# Altium footprint library Project_Oshinoko.PcbLib: 202 footprints (part 13 of 13)
Each footprint in its own frame and in the unit in brackets; x right, y up, seen from the top. Pads: shape width x height; smd on the part's side, far side on the other; paste and mask are expansions set on the pad; w line width, h text height; cw(c..) or ccw(c..) is an arc to the next point about the centre after c.
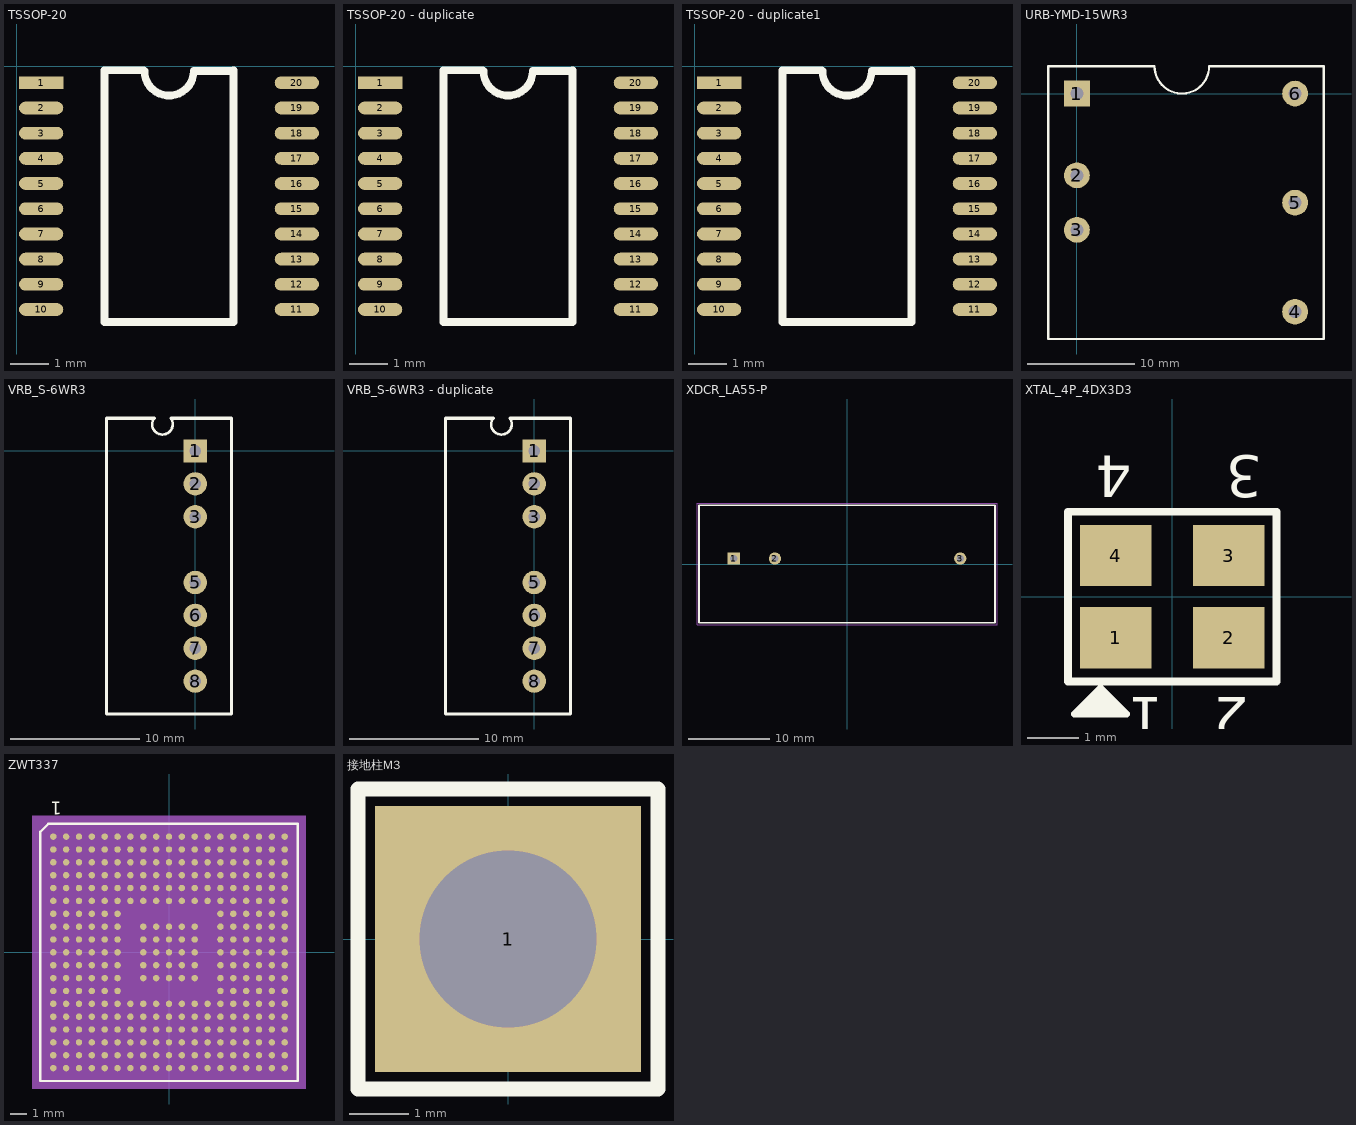
[diagram p12: the footprints below, top view; thin cyan lines are the x and y axes]

## TSSOP-20 [mm]
pads (20):
  rect 1.143x0.33 smd: 1(0.635,-0.432)
  oval 1.143x0.33 smd: 2(0.635,-1.082) 3(0.635,-1.732) 4(0.635,-2.382) 5(0.635,-3.032) 6(0.635,-3.682) 7(0.635,-4.332) 8(0.635,-4.982) 9(0.635,-5.632) 10(0.635,-6.282) 11(7.235,-6.282) 12(7.235,-5.632) 13(7.235,-4.982) 14(7.235,-4.332) 15(7.235,-3.682) 16(7.235,-3.032) 17(7.235,-2.382) 18(7.235,-1.732) 19(7.235,-1.082) 20(7.235,-0.432)
Top Overlay:
  lines w0.2: 3.282,-0.107 2.27,-0.107 2.27,-6.607 5.6,-6.607 5.6,-0.107 ; 3.302,-0.127 ccw(c3.937,-0.127) 4.572,-0.127 5.58,-0.127

## TSSOP-20 - duplicate [mm]
pads (20):
  rect 1.143x0.33 smd: 1(0.635,-0.432)
  oval 1.143x0.33 smd: 2(0.635,-1.082) 3(0.635,-1.732) 4(0.635,-2.382) 5(0.635,-3.032) 6(0.635,-3.682) 7(0.635,-4.332) 8(0.635,-4.982) 9(0.635,-5.632) 10(0.635,-6.282) 11(7.235,-6.282) 12(7.235,-5.632) 13(7.235,-4.982) 14(7.235,-4.332) 15(7.235,-3.682) 16(7.235,-3.032) 17(7.235,-2.382) 18(7.235,-1.732) 19(7.235,-1.082) 20(7.235,-0.432)
Top Overlay:
  lines w0.2: 3.282,-0.107 2.27,-0.107 2.27,-6.607 5.6,-6.607 5.6,-0.107 ; 3.302,-0.127 ccw(c3.937,-0.127) 4.572,-0.127 5.58,-0.127

## TSSOP-20 - duplicate1 [mm]
pads (20):
  rect 1.143x0.33 smd: 1(0.635,-0.432)
  oval 1.143x0.33 smd: 2(0.635,-1.082) 3(0.635,-1.732) 4(0.635,-2.382) 5(0.635,-3.032) 6(0.635,-3.682) 7(0.635,-4.332) 8(0.635,-4.982) 9(0.635,-5.632) 10(0.635,-6.282) 11(7.235,-6.282) 12(7.235,-5.632) 13(7.235,-4.982) 14(7.235,-4.332) 15(7.235,-3.682) 16(7.235,-3.032) 17(7.235,-2.382) 18(7.235,-1.732) 19(7.235,-1.082) 20(7.235,-0.432)
Top Overlay:
  lines w0.2: 3.282,-0.107 2.27,-0.107 2.27,-6.607 5.6,-6.607 5.6,-0.107 ; 3.302,-0.127 ccw(c3.937,-0.127) 4.572,-0.127 5.58,-0.127

## URB-YMD-15WR3 [mm]
pads (6):
  rect 2.4x2.4 hole 1.2: 1(0,0)
  round 2.4 hole 1.2: 2(0,-7.62) 3(0,-12.7) 4(20.32,-20.32) 5(20.32,-10.16) 6(20.32,0)
Top Overlay:
  lines w0.2: -2.667,-22.86 -2.667,0.254 -2.667,2.54 2.67,2.54 7.239,2.54 ccw(c9.779,2.54) 12.319,2.54 22.987,2.54 22.987,-22.86 2.032,-22.86 -2.667,-22.86

## VRB_S-6WR3 [mm]
pads (7):
  rect 1.8x1.8 hole 0.9: 1(0,0)
  round 1.8 hole 0.9: 2(0,-2.54) 3(0,-5.08) 5(0,-10.16) 6(0,-12.7) 7(0,-15.24) 8(0,-17.78)
Top Overlay:
  lines w0.2: -3.175,2.54 ccw(c-2.54,2.064) -1.905,2.54
  lines w0.254: -3.175,2.54 -6.858,2.54 -6.858,-20.32 0,-20.32 2.794,-20.32 2.794,2.54 -1.873,2.54

## VRB_S-6WR3 - duplicate [mm]
pads (7):
  rect 1.8x1.8 hole 0.9: 1(0,0)
  round 1.8 hole 0.9: 2(0,-2.54) 3(0,-5.08) 5(0,-10.16) 6(0,-12.7) 7(0,-15.24) 8(0,-17.78)
Top Overlay:
  lines w0.2: -3.175,2.54 ccw(c-2.54,2.064) -1.905,2.54
  lines w0.254: -3.175,2.54 -6.858,2.54 -6.858,-20.32 0,-20.32 2.794,-20.32 2.794,2.54 -1.873,2.54

## XDCR_LA55-P [mm]
pads (3):
  rect 1.5x1.5 hole 0.9: 1(-13.97,0.675)
  round 1.5 hole 0.9: 2(-8.89,0.675) 3(13.97,0.675)
Top Overlay:
  lines w0.2: -18.25,-7.225 -18.25,7.225 18.25,7.225 18.25,-7.225 -18.25,-7.225
Mechanical 15:
  lines w0.05: -18.5,-7.5 -18.5,7.5 18.5,7.5 18.5,-7.5 -18.5,-7.5

## XTAL_4P_4DX3D3 [mil] "XTAL_4P_4DX3D3"
pads (4):
  rect 55x47 smd: 1(-43.35,-31.51) 2(43.35,-31.51) 3(43.35,31.51) 4(-43.35,31.51)
Top Overlay:
  lines w5: -65,-85 -65,-90 -60,-90 ; -65,-85 -70,-90 -70,-85 -65,-85 ; -65,-85 -55,-75 ; -60,-90 -60,-85 -55,-80 ; -60,-90 -50,-80 -45,-85 ; -60,-90 -60,-75 -55,-75 ; -60,-90 -35,-90 -55,-70 -75,-90 -50,-90 ; -55,-80 -55,-75 ; -55,-80 -50,-75 -50,-85 -45,-85 ; -55,-80 -55,-85 -50,-90 ; -55,-75 -55,-90 -40,-90 -45,-85 ; -50,-90 -45,-85
  lines w6: -80,-65 -80,65 80,65 80,-65 -80,-65
  text "4" at -30.98,108 h32
  text "3" at 69.02,108 h32
  text "2" at 59.02,-77 h32
  text "1" at -5.98,-77 h32
Mechanical 8:
  text "1" at -33.35,-31.51 h25
  text "4" at -33.35,31.51 h25
  text "2" at 53.35,-31.51 h25
  text "3" at 53.35,31.51 h25

## ZWT337 [mm] "ZWT337"
pads (337):
  round 0.4 smd: A1(-7.2,7.2) A2(-6.4,7.2) A3(-5.6,7.2) A4(-4.8,7.2) A5(-4,7.2) A6(-3.2,7.2) A7(-2.4,7.2) A8(-1.6,7.2) A9(-0.8,7.2) A10(0,7.2) A11(0.8,7.2) A12(1.6,7.2) A13(2.4,7.2) A14(3.2,7.2) A15(4,7.2) A16(4.8,7.2) A17(5.6,7.2) A18(6.4,7.2) A19(7.2,7.2) B1(-7.2,6.4) B2(-6.4,6.4) B3(-5.6,6.4) B4(-4.8,6.4) B5(-4,6.4) B6(-3.2,6.4) B7(-2.4,6.4) B8(-1.6,6.4) B9(-0.8,6.4) B10(0,6.4) B11(0.8,6.4) B12(1.6,6.4) B13(2.4,6.4) B14(3.2,6.4) B15(4,6.4) B16(4.8,6.4) B17(5.6,6.4) B18(6.4,6.4) B19(7.2,6.4) C1(-7.2,5.6) C2(-6.4,5.6) C3(-5.6,5.6) C4(-4.8,5.6) C5(-4,5.6) C6(-3.2,5.6) C7(-2.4,5.6) C8(-1.6,5.6) C9(-0.8,5.6) C10(0,5.6) C11(0.8,5.6) C12(1.6,5.6) C13(2.4,5.6) C14(3.2,5.6) C15(4,5.6) C16(4.8,5.6) C17(5.6,5.6) C18(6.4,5.6) C19(7.2,5.6) D1(-7.2,4.8) D2(-6.4,4.8) D3(-5.6,4.8) D4(-4.8,4.8) D5(-4,4.8) D6(-3.2,4.8) D7(-2.4,4.8) D8(-1.6,4.8) D9(-0.8,4.8) D10(0,4.8) D11(0.8,4.8) D12(1.6,4.8) D13(2.4,4.8) D14(3.2,4.8) D15(4,4.8) D16(4.8,4.8) D17(5.6,4.8) D18(6.4,4.8) D19(7.2,4.8) E1(-7.2,4) E2(-6.4,4) E3(-5.6,4) E4(-4.8,4) E5(-4,4) E6(-3.2,4) E7(-2.4,4) E8(-1.6,4) E9(-0.8,4) E10(0,4) E11(0.8,4) E12(1.6,4) E13(2.4,4) E14(3.2,4) E15(4,4) E16(4.8,4) E17(5.6,4) E18(6.4,4) E19(7.2,4) F1(-7.2,3.2) F2(-6.4,3.2) F3(-5.6,3.2) F4(-4.8,3.2) F5(-4,3.2) F6(-3.2,3.2) F7(-2.4,3.2) F8(-1.6,3.2) F9(-0.8,3.2) F10(0,3.2) F11(0.8,3.2) F12(1.6,3.2) F13(2.4,3.2) F14(3.2,3.2) F15(4,3.2) F16(4.8,3.2) F17(5.6,3.2) F18(6.4,3.2) F19(7.2,3.2) G1(-7.2,2.4) G2(-6.4,2.4) G3(-5.6,2.4) G4(-4.8,2.4) G5(-4,2.4) G6(-3.2,2.4) G14(3.2,2.4) G15(4,2.4) G16(4.8,2.4) G17(5.6,2.4) G18(6.4,2.4) G19(7.2,2.4) H1(-7.2,1.6) H2(-6.4,1.6) H3(-5.6,1.6) H4(-4.8,1.6) H5(-4,1.6) H6(-3.2,1.6) H8(-1.6,1.6) H9(-0.8,1.6) H10(0,1.6) H11(0.8,1.6) H12(1.6,1.6) H14(3.2,1.6) H15(4,1.6) H16(4.8,1.6) H17(5.6,1.6) H18(6.4,1.6) H19(7.2,1.6) J1(-7.2,0.8) J2(-6.4,0.8) J3(-5.6,0.8) J4(-4.8,0.8) J5(-4,0.8) J6(-3.2,0.8) J8(-1.6,0.8) J9(-0.8,0.8) J10(0,0.8) J11(0.8,0.8) J12(1.6,0.8) J14(3.2,0.8) J15(4,0.8) J16(4.8,0.8) J17(5.6,0.8) J18(6.4,0.8) J19(7.2,0.8) K1(-7.2,0) K2(-6.4,0) K3(-5.6,0) K4(-4.8,0) K5(-4,0) K6(-3.2,0) K8(-1.6,0) K9(-0.8,0) K10(0,0) K11(0.8,0) K12(1.6,0) K14(3.2,0) K15(4,0) K16(4.8,0) K17(5.6,0) K18(6.4,0) K19(7.2,0) L1(-7.2,-0.8) L2(-6.4,-0.8) L3(-5.6,-0.8) L4(-4.8,-0.8) L5(-4,-0.8) L6(-3.2,-0.8) L8(-1.6,-0.8) L9(-0.8,-0.8) L10(0,-0.8) L11(0.8,-0.8) L12(1.6,-0.8) L14(3.2,-0.8) L15(4,-0.8) L16(4.8,-0.8) L17(5.6,-0.8) L18(6.4,-0.8) L19(7.2,-0.8) M1(-7.2,-1.6) M2(-6.4,-1.6) M3(-5.6,-1.6) M4(-4.8,-1.6) M5(-4,-1.6) M6(-3.2,-1.6) M8(-1.6,-1.6) M9(-0.8,-1.6) M10(0,-1.6) M11(0.8,-1.6) M12(1.6,-1.6) M14(3.2,-1.6) M15(4,-1.6) M16(4.8,-1.6) M17(5.6,-1.6) M18(6.4,-1.6) M19(7.2,-1.6) N1(-7.2,-2.4) N2(-6.4,-2.4) N3(-5.6,-2.4) N4(-4.8,-2.4) N5(-4,-2.4) N6(-3.2,-2.4) N14(3.2,-2.4) N15(4,-2.4) N16(4.8,-2.4) N17(5.6,-2.4) N18(6.4,-2.4) N19(7.2,-2.4) P1(-7.2,-3.2) P2(-6.4,-3.2) P3(-5.6,-3.2) P4(-4.8,-3.2) P5(-4,-3.2) P6(-3.2,-3.2) P7(-2.4,-3.2) P8(-1.6,-3.2) P9(-0.8,-3.2) P10(0,-3.2) P11(0.8,-3.2) P12(1.6,-3.2) P13(2.4,-3.2) P14(3.2,-3.2) P15(4,-3.2) P16(4.8,-3.2) P17(5.6,-3.2) P18(6.4,-3.2) P19(7.2,-3.2) R1(-7.2,-4) R2(-6.4,-4) R3(-5.6,-4) R4(-4.8,-4) R5(-4,-4) R6(-3.2,-4) R7(-2.4,-4) R8(-1.6,-4) R9(-0.8,-4) R10(0,-4) R11(0.8,-4) R12(1.6,-4) R13(2.4,-4) R14(3.2,-4) R15(4,-4) R16(4.8,-4) R17(5.6,-4) R18(6.4,-4) R19(7.2,-4) T1(-7.2,-4.8) T2(-6.4,-4.8) T3(-5.6,-4.8) T4(-4.8,-4.8) T5(-4,-4.8) T6(-3.2,-4.8) T7(-2.4,-4.8) T8(-1.6,-4.8) T9(-0.8,-4.8) T10(0,-4.8) T11(0.8,-4.8) T12(1.6,-4.8) T13(2.4,-4.8) T14(3.2,-4.8) T15(4,-4.8) T16(4.8,-4.8) T17(5.6,-4.8) T18(6.4,-4.8) T19(7.2,-4.8) U1(-7.2,-5.6) U2(-6.4,-5.6) U3(-5.6,-5.6) U4(-4.8,-5.6) U5(-4,-5.6) U6(-3.2,-5.6) U7(-2.4,-5.6) U8(-1.6,-5.6) U9(-0.8,-5.6) U10(0,-5.6) U11(0.8,-5.6) U12(1.6,-5.6) U13(2.4,-5.6) U14(3.2,-5.6) U15(4,-5.6) U16(4.8,-5.6) U17(5.6,-5.6) U18(6.4,-5.6) U19(7.2,-5.6) V1(-7.2,-6.4) V2(-6.4,-6.4) V3(-5.6,-6.4) V4(-4.8,-6.4) V5(-4,-6.4) V6(-3.2,-6.4) V7(-2.4,-6.4) V8(-1.6,-6.4) V9(-0.8,-6.4) V10(0,-6.4) V11(0.8,-6.4) V12(1.6,-6.4) V13(2.4,-6.4) V14(3.2,-6.4) V15(4,-6.4) V16(4.8,-6.4) V17(5.6,-6.4) V18(6.4,-6.4) V19(7.2,-6.4) W1(-7.2,-7.2) W2(-6.4,-7.2) W3(-5.6,-7.2) W4(-4.8,-7.2) W5(-4,-7.2) W6(-3.2,-7.2) W7(-2.4,-7.2) W8(-1.6,-7.2) W9(-0.8,-7.2) W10(0,-7.2) W11(0.8,-7.2) W12(1.6,-7.2) W13(2.4,-7.2) W14(3.2,-7.2) W15(4,-7.2) W16(4.8,-7.2) W17(5.6,-7.2) W18(6.4,-7.2) W19(7.2,-7.2)
Top Overlay:
  lines w0.15: -8,-8 -8,7.5 -7.5,8 8,8 8,-8 -8,-8
  text "1" at -6.672,9.362 h0.8
Mechanical 8:
  text "V15" at 4,-6.76 h0.3
  text "W13" at 2.4,-7.56 h0.3
  text "W15" at 4,-7.56 h0.3
  text "W14" at 3.2,-7.56 h0.3
  text "V14" at 3.2,-6.76 h0.3
  text "F19" at 7.2,2.84 h0.3
  text "B3" at -5.6,6.16 h0.3
  text "L4" at -4.8,-1.04 h0.3
  text "F11" at 0.8,2.84 h0.3
  text "F9" at -0.8,2.96 h0.3
  text "P10" at 0,-3.56 h0.3
  text "P13" at 2.4,-3.56 h0.3
  text "K6" at -3.2,-0.24 h0.3
  text "R13" at 2.4,-4.36 h0.3
  text "R10" at 0,-4.36 h0.3
  text "K5" at -4,-0.24 h0.3
  text "J15" at 4,0.44 h0.3
  text "J14" at 3.2,0.44 h0.3
  text "G15" at 4,2.04 h0.3
  text "G14" at 3.2,2.04 h0.3
  text "E11" at 0.8,3.64 h0.3
  text "E9" at -0.8,3.76 h0.3
  text "W8" at -1.6,-7.44 h0.3
  text "V19" at 7.2,-6.76 h0.3
  text "A18" at 6.4,6.84 h0.3
  text "F10" at 0,2.84 h0.3
  text "F7" at -2.4,2.96 h0.3
  text "P9" at -0.8,-3.44 h0.3
  text "F13" at 2.4,2.84 h0.3
  text "G6" at -3.2,2.16 h0.3
  text "H6" at -3.2,1.36 h0.3
  text "M6" at -3.2,-1.84 h0.3
  text "P6" at -3.2,-3.44 h0.3
  text "R12" at 1.6,-4.36 h0.3
  text "R11" at 0.8,-4.36 h0.3
  text "R9" at -0.8,-4.24 h0.3
  text "R6" at -3.2,-4.24 h0.3
  text "N15" at 4,-2.76 h0.3
  text "N14" at 3.2,-2.76 h0.3
  text "M5" at -4,-1.84 h0.3
  text "M1" at -7.2,-1.84 h0.3
  text "L15" at 4,-1.16 h0.3
  text "L14" at 3.2,-1.16 h0.3
  text "J18" at 6.4,0.44 h0.3
  text "H17" at 5.6,1.24 h0.3
  text "H16" at 4.8,1.24 h0.3
  text "H5" at -4,1.36 h0.3
  text "G5" at -4,2.16 h0.3
  text "G4" at -4.8,2.16 h0.3
  text "F16" at 4.8,2.84 h0.3
  text "F4" at -4.8,2.96 h0.3
  text "E16" at 4.8,3.64 h0.3
  text "E13" at 2.4,3.64 h0.3
  text "E10" at 0,3.64 h0.3
  text "E7" at -2.4,3.76 h0.3
  text "B1" at -7.2,6.16 h0.3
  text "A9" at -0.8,6.96 h0.3
  text "T16" at 4.8,-5.16 h0.3
  text "W17" at 5.6,-7.56 h0.3
  text "V17" at 5.6,-6.76 h0.3
  text "U17" at 5.6,-5.96 h0.3
  text "K18" at 6.4,-0.36 h0.3
  text "K19" at 7.2,-0.36 h0.3
  text "E19" at 7.2,3.64 h0.3
  text "E18" at 6.4,3.64 h0.3
  text "R16" at 4.8,-4.36 h0.3
  text "R17" at 5.6,-4.36 h0.3
  text "R18" at 6.4,-4.36 h0.3
  text "R19" at 7.2,-4.36 h0.3
  text "P16" at 4.8,-3.56 h0.3
  text "C11" at 0.8,5.24 h0.3
  text "D11" at 0.8,4.44 h0.3
  text "C6" at -3.2,5.36 h0.3
  text "D6" at -3.2,4.56 h0.3
  text "A5" at -4,6.96 h0.3
  text "B5" at -4,6.16 h0.3
  text "A4" at -4.8,6.96 h0.3
  text "B4" at -4.8,6.16 h0.3
  text "N17" at 5.6,-2.76 h0.3
  text "M16" at 4.8,-1.96 h0.3
  text "C7" at -2.4,5.36 h0.3
  text "A6" at -3.2,6.96 h0.3
  text "V11" at 0.8,-6.76 h0.3
  text "W11" at 0.8,-7.56 h0.3
  text "T11" at 0.8,-5.16 h0.3
  text "E2" at -6.4,3.76 h0.3
  text "J17" at 5.6,0.44 h0.3
  text "B2" at -6.4,6.16 h0.3
  text "E4" at -4.8,3.76 h0.3
  text "E1" at -7.2,3.76 h0.3
  text "U14" at 3.2,-5.96 h0.3
  text "T14" at 3.2,-5.16 h0.3
  text "B11" at 0.8,6.04 h0.3
  text "C14" at 3.2,5.24 h0.3
  text "B14" at 3.2,6.04 h0.3
  text "A14" at 3.2,6.84 h0.3
  text "D15" at 4,4.44 h0.3
  text "C15" at 4,5.24 h0.3
  text "B15" at 4,6.04 h0.3
  text "A15" at 4,6.84 h0.3
  text "C16" at 4.8,5.24 h0.3
  text "D16" at 4.8,4.44 h0.3
  text "C17" at 5.6,5.24 h0.3
  text "A16" at 4.8,6.84 h0.3
  text "B16" at 4.8,6.04 h0.3
  text "B17" at 5.6,6.04 h0.3
  text "A17" at 5.6,6.84 h0.3
  text "B18" at 6.4,6.04 h0.3
  text "T19" at 7.2,-5.16 h0.3
  text "T17" at 5.6,-5.16 h0.3
  text "U18" at 6.4,-5.96 h0.3
  text "V18" at 6.4,-6.76 h0.3
  text "G18" at 6.4,2.04 h0.3
  text "W18" at 6.4,-7.56 h0.3
  text "T12" at 1.6,-5.16 h0.3
  text "T15" at 4,-5.16 h0.3
  text "T10" at 0,-5.16 h0.3
  text "F18" at 6.4,2.84 h0.3
  text "T18" at 6.4,-5.16 h0.3
  text "A11" at 0.8,6.84 h0.3
  text "T9" at -0.8,-5.04 h0.3
  text "A3" at -5.6,6.96 h0.3
  text "C18" at 6.4,5.24 h0.3
  text "B19" at 7.2,6.04 h0.3
  text "W19" at 7.2,-7.56 h0.3
  text "W7" at -2.4,-7.44 h0.3
  text "W1" at -7.2,-7.44 h0.3
  text "A19" at 7.2,6.84 h0.3
  text "H12" at 1.6,1.24 h0.3
  text "K12" at 1.6,-0.36 h0.3
  text "J12" at 1.6,0.44 h0.3
  text "M12" at 1.6,-1.96 h0.3
  text "L12" at 1.6,-1.16 h0.3
  text "H11" at 0.8,1.24 h0.3
  text "K11" at 0.8,-0.36 h0.3
  text "J11" at 0.8,0.44 h0.3
  text "M11" at 0.8,-1.96 h0.3
  text "L11" at 0.8,-1.16 h0.3
  text "H10" at 0,1.24 h0.3
  text "K10" at 0,-0.36 h0.3
  text "J10" at 0,0.44 h0.3
  text "M10" at 0,-1.96 h0.3
  text "L10" at 0,-1.16 h0.3
  text "H9" at -0.8,1.36 h0.3
  text "K9" at -0.8,-0.24 h0.3
  text "J9" at -0.8,0.56 h0.3
  text "M9" at -0.8,-1.84 h0.3
  text "L9" at -0.8,-1.04 h0.3
  text "H8" at -1.6,1.36 h0.3
  text "K8" at -1.6,-0.24 h0.3
  text "J8" at -1.6,0.56 h0.3
  text "M8" at -1.6,-1.84 h0.3
  text "L8" at -1.6,-1.04 h0.3
  text "F12" at 1.6,2.84 h0.3
  text "F8" at -1.6,2.96 h0.3
  text "P11" at 0.8,-3.56 h0.3
  text "P12" at 1.6,-3.56 h0.3
  text "P8" at -1.6,-3.44 h0.3
  text "P7" at -2.4,-3.44 h0.3
  text "F6" at -3.2,2.96 h0.3
  text "J6" at -3.2,0.56 h0.3
  text "L6" at -3.2,-1.04 h0.3
  text "N6" at -3.2,-2.64 h0.3
  text "V7" at -2.4,-6.64 h0.3
  text "V6" at -3.2,-6.64 h0.3
  text "V5" at -4,-6.64 h0.3
  text "R15" at 4,-4.36 h0.3
  text "R14" at 3.2,-4.36 h0.3
  text "R8" at -1.6,-4.24 h0.3
  text "R7" at -2.4,-4.24 h0.3
  text "R5" at -4,-4.24 h0.3
  text "R2" at -6.4,-4.24 h0.3
  text "P15" at 4,-3.56 h0.3
  text "P14" at 3.2,-3.56 h0.3
  text "P5" at -4,-3.44 h0.3
  text "P2" at -6.4,-3.44 h0.3
  text "P1" at -7.2,-3.44 h0.3
  text "N5" at -4,-2.64 h0.3
  text "N1" at -7.2,-2.64 h0.3
  text "M15" at 4,-1.96 h0.3
  text "M14" at 3.2,-1.96 h0.3
  text "L18" at 6.4,-1.16 h0.3
  text "L5" at -4,-1.04 h0.3
  text "K15" at 4,-0.36 h0.3
  text "K14" at 3.2,-0.36 h0.3
  text "J5" at -4,0.56 h0.3
  text "H15" at 4,1.24 h0.3
  text "H14" at 3.2,1.24 h0.3
  text "G17" at 5.6,2.04 h0.3
  text "G16" at 4.8,2.04 h0.3
  text "F15" at 4,2.84 h0.3
  text "F14" at 3.2,2.84 h0.3
  text "F5" at -4,2.96 h0.3
  text "E15" at 4,3.64 h0.3
  text "E14" at 3.2,3.64 h0.3
  text "E12" at 1.6,3.64 h0.3
  text "E8" at -1.6,3.76 h0.3
  text "E6" at -3.2,3.76 h0.3
  text "E5" at -4,3.76 h0.3
  text "A10" at 0,6.84 h0.3
  text "A1" at -7.2,6.96 h0.3
  text "B6" at -3.2,6.16 h0.3
  text "M17" at 5.6,-1.96 h0.3
  text "J4" at -4.8,0.56 h0.3
  text "D2" at -6.4,4.56 h0.3
  text "T4" at -4.8,-5.04 h0.3
  text "U4" at -4.8,-5.84 h0.3
  text "U1" at -7.2,-5.84 h0.3
  text "T1" at -7.2,-5.04 h0.3
  text "U2" at -6.4,-5.84 h0.3
  text "T2" at -6.4,-5.04 h0.3
  text "U3" at -5.6,-5.84 h0.3
  text "T3" at -5.6,-5.04 h0.3
  text "V2" at -6.4,-6.64 h0.3
  text "W2" at -6.4,-7.44 h0.3
  text "V3" at -5.6,-6.64 h0.3
  text "W3" at -5.6,-7.44 h0.3
  text "V4" at -4.8,-6.64 h0.3
  text "W4" at -4.8,-7.44 h0.3
  text "R3" at -5.6,-4.24 h0.3
  text "P3" at -5.6,-3.44 h0.3
  text "R4" at -4.8,-4.24 h0.3
  text "P4" at -4.8,-3.44 h0.3
  text "T5" at -4,-5.04 h0.3
  text "U5" at -4,-5.84 h0.3
  text "T6" at -3.2,-5.04 h0.3
  text "U6" at -3.2,-5.84 h0.3
  text "T7" at -2.4,-5.04 h0.3
  text "U7" at -2.4,-5.84 h0.3
  text "F3" at -5.6,2.96 h0.3
  text "D1" at -7.2,4.56 h0.3
  text "F2" at -6.4,2.96 h0.3
  text "C2" at -6.4,5.36 h0.3
  text "D7" at -2.4,4.56 h0.3
  text "L16" at 4.8,-1.16 h0.3
  text "K4" at -4.8,-0.24 h0.3
  text "D3" at -5.6,4.56 h0.3
  text "U13" at 2.4,-5.96 h0.3
  text "V12" at 1.6,-6.76 h0.3
  text "U12" at 1.6,-5.96 h0.3
  text "U10" at 0,-5.96 h0.3
  text "V10" at 0,-6.76 h0.3
  text "W10" at 0,-7.56 h0.3
  text "V9" at -0.8,-6.64 h0.3
  text "W9" at -0.8,-7.44 h0.3
  text "U9" at -0.8,-5.84 h0.3
  text "V8" at -1.6,-6.64 h0.3
  text "U8" at -1.6,-5.84 h0.3
  text "T8" at -1.6,-5.04 h0.3
  text "N4" at -4.8,-2.64 h0.3
  text "N3" at -5.6,-2.64 h0.3
  text "N2" at -6.4,-2.64 h0.3
  text "M2" at -6.4,-1.84 h0.3
  text "C3" at -5.6,5.36 h0.3
  text "A2" at -6.4,6.96 h0.3
  text "G1" at -7.2,2.16 h0.3
  text "F1" at -7.2,2.96 h0.3
  text "K3" at -5.6,-0.24 h0.3
  text "K2" at -6.4,-0.24 h0.3
  text "L1" at -7.2,-1.04 h0.3
  text "K1" at -7.2,-0.24 h0.3
  text "J2" at -6.4,0.56 h0.3
  text "J3" at -5.6,0.56 h0.3
  text "L3" at -5.6,-1.04 h0.3
  text "L2" at -6.4,-1.04 h0.3
  text "D8" at -1.6,4.56 h0.3
  text "B7" at -2.4,6.16 h0.3
  text "C8" at -1.6,5.36 h0.3
  text "A7" at -2.4,6.96 h0.3
  text "N16" at 4.8,-2.76 h0.3
  text "K16" at 4.8,-0.36 h0.3
  text "H3" at -5.6,1.36 h0.3
  text "P19" at 7.2,-3.56 h0.3
  text "L17" at 5.6,-1.16 h0.3
  text "H2" at -6.4,1.36 h0.3
  text "P18" at 6.4,-3.56 h0.3
  text "J16" at 4.8,0.44 h0.3
  text "H1" at -7.2,1.36 h0.3
  text "N18" at 6.4,-2.76 h0.3
  text "K17" at 5.6,-0.36 h0.3
  text "J1" at -7.2,0.56 h0.3
  text "F17" at 5.6,2.84 h0.3
  text "D19" at 7.2,4.44 h0.3
  text "C19" at 7.2,5.24 h0.3
  text "W16" at 4.8,-7.56 h0.3
  text "U15" at 4,-5.96 h0.3
  text "M3" at -5.6,-1.84 h0.3
  text "P17" at 5.6,-3.56 h0.3
  text "M4" at -4.8,-1.84 h0.3
  text "U19" at 7.2,-5.96 h0.3
  text "J19" at 7.2,0.44 h0.3
  text "H19" at 7.2,1.24 h0.3
  text "H18" at 6.4,1.24 h0.3
  text "G19" at 7.2,2.04 h0.3
  text "E17" at 5.6,3.64 h0.3
  text "D18" at 6.4,4.44 h0.3
  text "D17" at 5.6,4.44 h0.3
  text "D14" at 3.2,4.44 h0.3
  text "A13" at 2.4,6.84 h0.3
  text "B13" at 2.4,6.04 h0.3
  text "C13" at 2.4,5.24 h0.3
  text "D13" at 2.4,4.44 h0.3
  text "A12" at 1.6,6.84 h0.3
  text "B12" at 1.6,6.04 h0.3
  text "C12" at 1.6,5.24 h0.3
  text "D12" at 1.6,4.44 h0.3
  text "B10" at 0,6.04 h0.3
  text "C10" at 0,5.24 h0.3
  text "D10" at 0,4.44 h0.3
  text "B9" at -0.8,6.16 h0.3
  text "C9" at -0.8,5.36 h0.3
  text "D9" at -0.8,4.56 h0.3
  text "A8" at -1.6,6.96 h0.3
  text "B8" at -1.6,6.16 h0.3
  text "C5" at -4,5.36 h0.3
  text "D5" at -4,4.56 h0.3
  text "C4" at -4.8,5.36 h0.3
  text "D4" at -4.8,4.56 h0.3
  text "U16" at 4.8,-5.96 h0.3
  text "T13" at 2.4,-5.16 h0.3
  text "G3" at -5.6,2.16 h0.3
  text "C1" at -7.2,5.36 h0.3
  text "M19" at 7.2,-1.96 h0.3
  text "L19" at 7.2,-1.16 h0.3
  text "G2" at -6.4,2.16 h0.3
  text "E3" at -5.6,3.76 h0.3
  text "N19" at 7.2,-2.76 h0.3
  text "M18" at 6.4,-1.96 h0.3
  text "W6" at -3.2,-7.44 h0.3
  text "W5" at -4,-7.44 h0.3
  text "V1" at -7.2,-6.64 h0.3
  text "R1" at -7.2,-4.24 h0.3
  text "V16" at 4.8,-6.76 h0.3
  text "U11" at 0.8,-5.96 h0.3
  text "H4" at -4.8,1.36 h0.3
  text "V13" at 2.4,-6.76 h0.3
  text "W12" at 1.6,-7.56 h0.3
Mechanical 10:
  region: -8.5,-8.5 8.5,-8.5 8.5,8.5 -8.5,8.5
Mechanical 11:
  lines w0.025: -8,-8 -8,8 8,8 8,-8 -8,-8

## 接地柱M3 [mm]
pads (1):
  rect 4.5x4.5 hole 3: 1(0,0)
Top Overlay:
  lines w0.254: -2.54,-2.54 -2.54,2.54 2.54,2.54 2.54,-2.54 -2.54,-2.54